# EAGLE library part CH559L (library IntelMKR_ExpP)
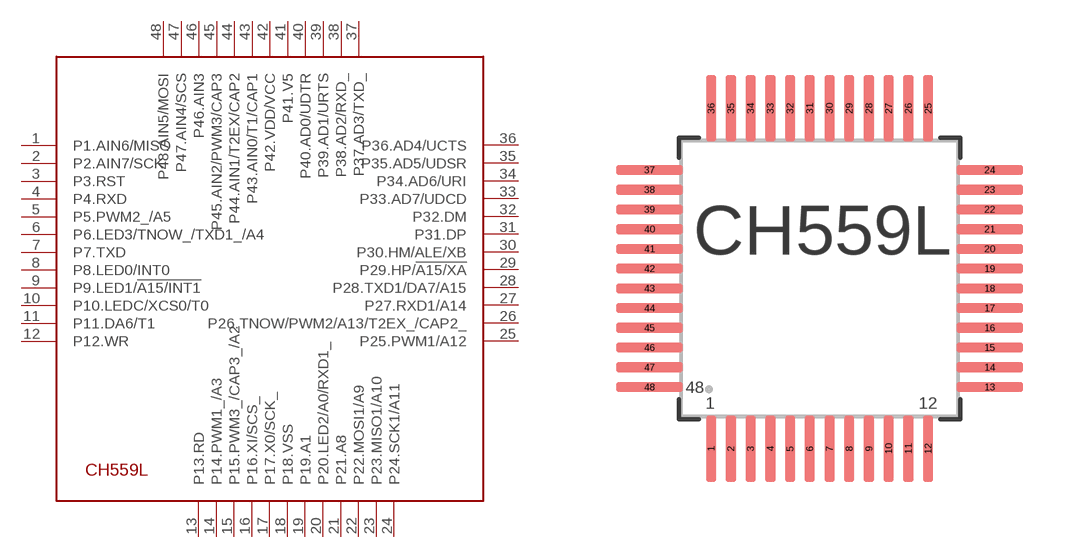
[diagram p9: symbol with the pads of CH559L; footprint CH559L]

Designator prefix -

## CH559L  [CH559L]
1  P1.AIN6/MISO
2  P2.AIN7/SCK
3  P3.RST
4  P4.RXD
5  P5.PWM2_/A5
6  P6.LED3/TNOW_/TXD1_/A4
7  P7.TXD
8  P8.LED0/INT0
9  P9.LED1/!A15/INT1
10  P10.LEDC/XCS0/T0
11  P11.DA6/T1
12  P12.WR
13  P13.RD
14  P14.PWM1_/A3
15  P15.PWM3_/CAP3_/A2
16  P16.XI/SCS_
17  P17.X0/SCK_
18  P18.VSS  pwr
19  P19.A1
20  P20.LED2/A0/RXD1_
21  P21.A8
22  P22.MOSI1/A9
23  P23.MISO1/A10
24  P24.SCK1/A11
25  P25.PWM1/A12
26  P26.TNOW/PWM2/A13/T2EX_/CAP2_
27  P27.RXD1/A14
28  P28.TXD1/DA7/A15
29  P29.HP/!A15/XA
30  P30.HM/ALE/XB
31  P31.DP
32  P32.DM
33  P33.AD7/UDCD
34  P34.AD6/URI
35  P35.AD5/UDSR
36  P36.AD4/UCTS
37  P37.AD3/TXD_
38  P38.AD2/RXD_
39  P39.AD1/URTS
40  P40.AD0/UDTR
41  P41.V5  pwr
42  P42.VDD/VCC  pwr
43  P43.AIN0/T1/CAP1
44  P44.AIN1/T2EX/CAP2
45  P45.AIN2/PWM3/CAP3
46  P46.AIN3
47  P47.AIN4/SCS
48  P48.AIN5/MOSI

## Footprint CH559L (pad centres in mm)
Quad Flat Package (48 pins, 0.50mm pitch) Nominal Material Condition Body (LxWxH): 3.50mm x 3.50mm x 0.00mm Lead (L): 0.25mm IPC Component Parameters materialCondition | 1 | Nominal (Nominal Density) nD | 12 nE | 12 A | 0.000000 | 0.000000 D | 8.000000 | 10.000000 E | 8.000000 | 10.000000 D1 | 0.000000 | 7.000000 E1 | 0.000000 | 7.000000 b | 0.000000 | 0.250000 L | 0.000000 | 0.500000 e | 0.500000 ep_D2 | 0.000000 ep_E2 | 0.000000 ep_tr | 0.000000 ep_tc | 0.000000 ep_pmc | 100.000000 ep_pmp | 0 | solid ep_pmspace | 0.500000 IPC Library Parameters fabTol | 0.050000 placeTol | 0.025000 padPlaceRoundOff | 0.010000 padSizeRoundOff | 0.010000 cornerRadius | 25.000000 cornerRadiusLimit | 0.250000 cornerRadiusRoundOff | 0.010000 thtPadSizeRoundOff | 0.010000 thtCourtyardExcess | 0.250000 thtCourtyardRound | 0.010000 thtHoleOverRoundLead | 0.200000 thtHoleOverRectangularLead | 0.150000 thtMinimumAnnularRing | 0.200000 thtPadToHoleRatio | 1.500000 courtyardLineWidth | 0.050000 legendLineWidth | 0.100000 | 0.120000 | 0.150000 legendClearance | 0.100000 | 0.120000 | 0.150000 legendFontHeight | 1.000000 | 1.200000 | 1.500000 legendFontRatio | 10.000000 legendRoundOff | 0.010000 componentFontHeight | 2.000000 componentLineWidth | 0.100000 componentRoundOff | 0.010000 Package generated by: qfp.ulp
smd 0.26 x 1.69: 1 -2.75,-4.31; 2 -2.25,-4.31; 3 -1.75,-4.31; 4 -1.25,-4.31; 5 -0.75,-4.31; 6 -0.25,-4.31; 7 0.25,-4.31; 8 0.75,-4.31; 9 1.25,-4.31; 10 1.75,-4.31; 11 2.25,-4.31; 12 2.75,-4.31; 25 2.75,4.31; 26 2.25,4.31; 27 1.75,4.31; 28 1.25,4.31; 29 0.75,4.31; 30 0.25,4.31; 31 -0.25,4.31; 32 -0.75,4.31; 33 -1.25,4.31; 34 -1.75,4.31; 35 -2.25,4.31; 36 -2.75,4.31
smd 1.69 x 0.26: 13 4.31,-2.75; 14 4.31,-2.25; 15 4.31,-1.75; 16 4.31,-1.25; 17 4.31,-0.75; 18 4.31,-0.25; 19 4.31,0.25; 20 4.31,0.75; 21 4.31,1.25; 22 4.31,1.75; 23 4.31,2.25; 24 4.31,2.75; 37 -4.31,2.75; 38 -4.31,2.25; 39 -4.31,1.75; 40 -4.31,1.25; 41 -4.31,0.75; 42 -4.31,0.25; 43 -4.31,-0.25; 44 -4.31,-0.75; 45 -4.31,-1.25; 46 -4.31,-1.75; 47 -4.31,-2.25; 48 -4.31,-2.75